# EAGLE library part LTC4412 (library jhbruhn-ic)
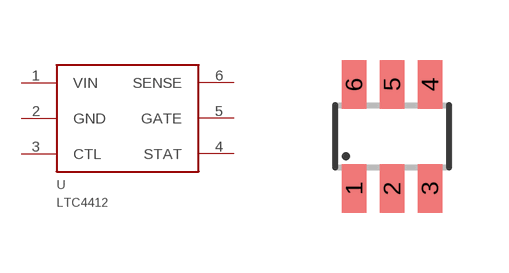
[diagram p1: symbol with the pads of TSOT23-6; footprint TSOT23-6]

Designator prefix -

## LTC4412  [TSOT23-6]
1  VIN  pwr
2  GND  pwr
3  CTL
4  STAT
5  GATE
6  SENSE

## Footprint TSOT23-6 (pad centres in mm)
S6 Package 6-Lead Plastic TSOT-23 Source: http://cds.linear.com/docs/Datasheet/623012fb.pdf
smd 0.62 x 1.22: 1 -0.95,-1.3; 2 0,-1.3; 3 0.95,-1.3; 4 0.95,1.3; 5 0,1.3; 6 -0.95,1.3